# EAGLE library part TMC4671-ES (library TMC4671-ES)
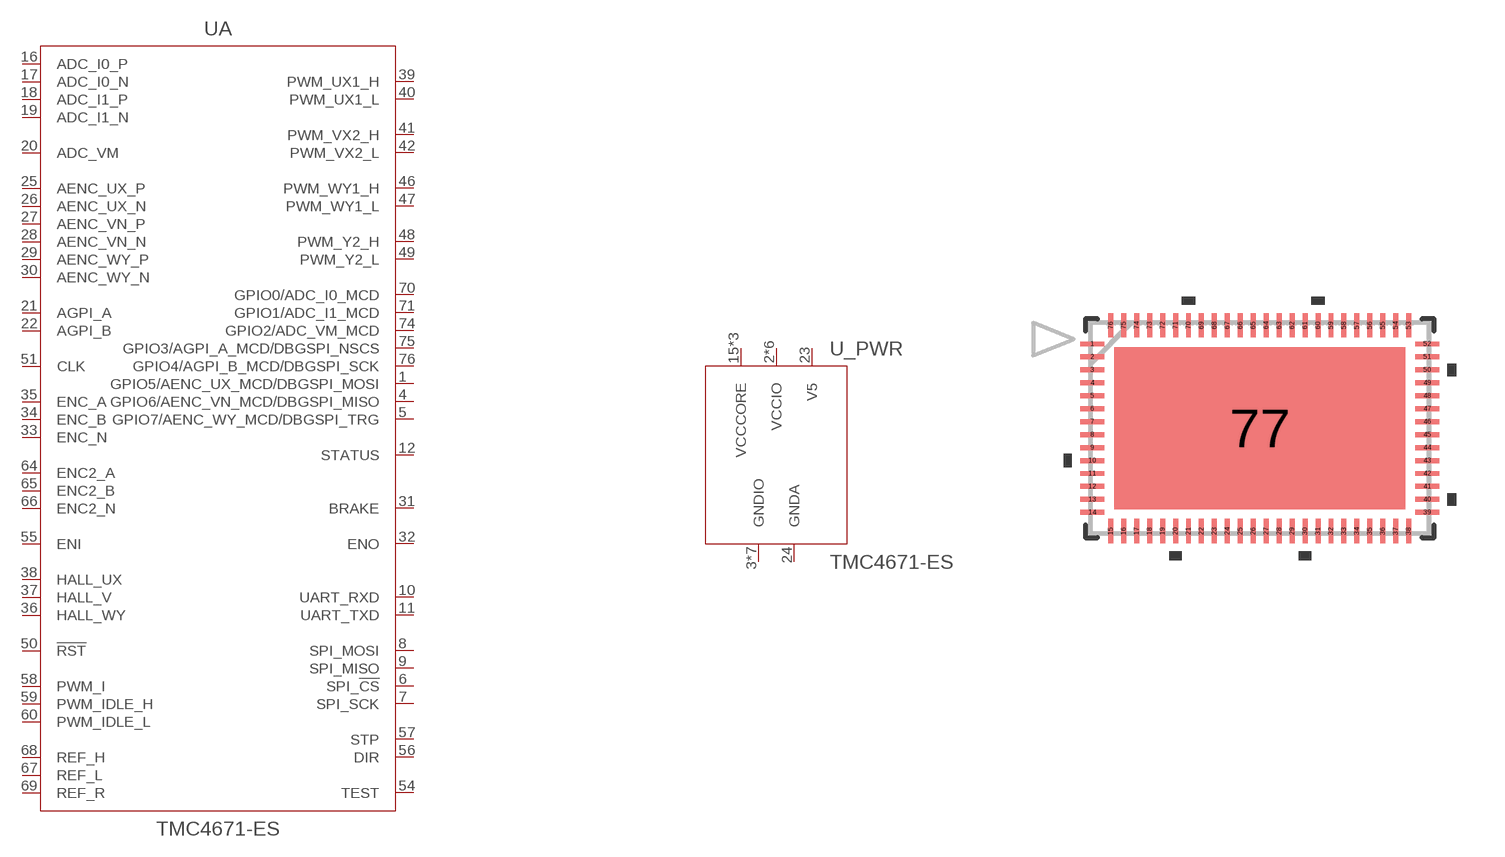
[diagram p0: symbol with the pads of QFN76_10P5X6P5; footprint QFN76_10P5X6P5]

Designator prefix U; gates A=TMC4671-ES _PWR=TMC4671-ES_A

## TMC4671-ES (MANUFACTURER_PART_NUMBER: TMC4671ES; VENDOR: TRINAMIC)  [QFN76_10P5X6P5]
1  A:GPIO5/AENC_UX_MCD/DBGSPI_MOSI
2  _PWR:VCCIO  in
3  _PWR:GNDIO  pwr
4  A:GPIO6/AENC_VN_MCD/DBGSPI_MISO
5  A:GPIO7/AENC_WY_MCD/DBGSPI_TRG
6  A:SPI_!CS  in
7  A:SPI_SCK  in
8  A:SPI_MOSI  in
9  A:SPI_MISO  out
10  A:UART_RXD  in
11  A:UART_TXD  out
12  A:STATUS  out
13  _PWR:VCCIO  in
14  _PWR:GNDIO  pwr
15  _PWR:VCCCORE  in
16  A:ADC_I0_P  in
17  A:ADC_I0_N  in
18  A:ADC_I1_P  in
19  A:ADC_I1_N  in
20  A:ADC_VM  in
21  A:AGPI_A  in
22  A:AGPI_B  in
23  _PWR:V5  in
24  _PWR:GNDA  pwr
25  A:AENC_UX_P  in
26  A:AENC_UX_N  in
27  A:AENC_VN_P  in
28  A:AENC_VN_N  in
29  A:AENC_WY_P  in
30  A:AENC_WY_N  in
31  A:BRAKE  out
32  A:ENO  out
33  A:ENC_N  in
34  A:ENC_B  in
35  A:ENC_A  in
36  A:HALL_WY  in
37  A:HALL_V  in
38  A:HALL_UX  in
39  A:PWM_UX1_H  out
40  A:PWM_UX1_L  out
41  A:PWM_VX2_H  out
42  A:PWM_VX2_L  out
43  _PWR:VCCIO  in
44  _PWR:GNDIO  pwr
45  _PWR:VCCCORE  in
46  A:PWM_WY1_H  out
47  A:PWM_WY1_L  out
48  A:PWM_Y2_H  out
49  A:PWM_Y2_L  out
50  A:!RST  in
51  A:CLK  in
52  _PWR:VCCIO  in
53  _PWR:GNDIO  pwr
54  A:TEST  in
55  A:ENI  in
56  A:DIR  in
57  A:STP  in
58  A:PWM_I  in
59  A:PWM_IDLE_H  in
60  A:PWM_IDLE_L  in
61  _PWR:VCCIO  in
62  _PWR:GNDIO  pwr
63  _PWR:VCCCORE  in
64  A:ENC2_A  in
65  A:ENC2_B  in
66  A:ENC2_N  in
67  A:REF_L  in
68  A:REF_H  in
69  A:REF_R  in
70  A:GPIO0/ADC_I0_MCD
71  A:GPIO1/ADC_I1_MCD
72  _PWR:VCCIO  in
73  _PWR:GNDIO  pwr
74  A:GPIO2/ADC_VM_MCD
75  A:GPIO3/AGPI_A_MCD/DBGSPI_NSCS
76  A:GPIO4/AGPI_B_MCD/DBGSPI_SCK
77  _PWR:GNDIO  pwr

## Footprint QFN76_10P5X6P5 (pad centres in mm)
smd 0.755 x 0.152: 1 -5.173,2.6; 2 -5.173,2.2; 3 -5.173,1.8; 4 -5.173,1.4; 5 -5.173,1; 6 -5.173,0.6; 7 -5.173,0.2; 8 -5.173,-0.2; 9 -5.173,-0.6; 10 -5.173,-1; 11 -5.173,-1.4; 12 -5.173,-1.8; 13 -5.173,-2.2; 14 -5.173,-2.6; 39 5.173,-2.6; 40 5.173,-2.2; 41 5.173,-1.8; 42 5.173,-1.4; 43 5.173,-1; 44 5.173,-0.6; 45 5.173,-0.2; 46 5.173,0.2; 47 5.173,0.6; 48 5.173,1; 49 5.173,1.4; 50 5.173,1.8; 51 5.173,2.2; 52 5.173,2.6
smd 0.152 x 0.755: 15 -4.6,-3.179; 16 -4.2,-3.179; 17 -3.8,-3.179; 18 -3.4,-3.179; 19 -3,-3.179; 20 -2.6,-3.179; 21 -2.2,-3.179; 22 -1.8,-3.179; 23 -1.4,-3.179; 24 -1,-3.179; 25 -0.6,-3.179; 26 -0.2,-3.179; 27 0.2,-3.179; 28 0.6,-3.179; 29 1,-3.179; 30 1.4,-3.179; 31 1.8,-3.179; 32 2.2,-3.179; 33 2.6,-3.179; 34 3,-3.179; 35 3.4,-3.179; 36 3.8,-3.179; 37 4.2,-3.179; 38 4.6,-3.179; 53 4.6,3.179; 54 4.2,3.179; 55 3.8,3.179; 56 3.4,3.179; 57 3,3.179; 58 2.6,3.179; 59 2.2,3.179; 60 1.8,3.179; 61 1.4,3.179; 62 1,3.179; 63 0.6,3.179; 64 0.2,3.179; 65 -0.2,3.179; 66 -0.6,3.179; 67 -1,3.179; 68 -1.4,3.179; 69 -1.8,3.179; 70 -2.2,3.179; 71 -2.6,3.179; 72 -3,3.179; 73 -3.4,3.179; 74 -3.8,3.179; 75 -4.2,3.179; 76 -4.6,3.179
smd 8.992 x 5.004: 77 0,0